# EAGLE library part XS10 (library Distributed_Camera_Parts)
Header for RPI Compute
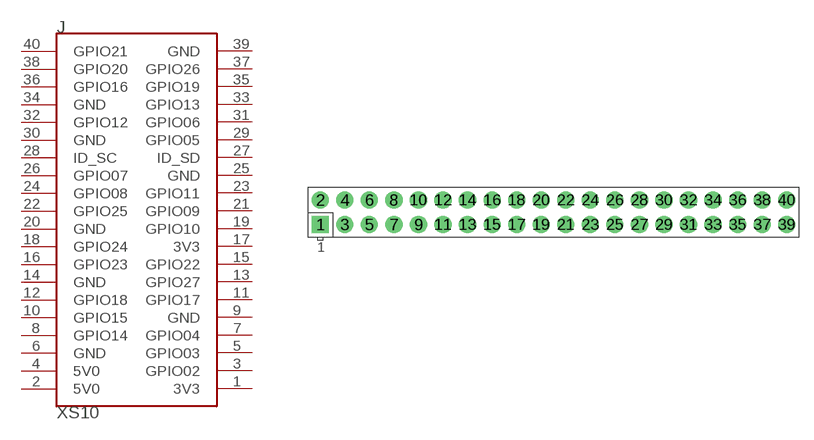
[diagram p1: symbol with the pads of RASPBERRYPI_BASTELSTUBE_V13_RASPI_BOARD_B+_FULL; footprint RASPBERRYPI_BASTELSTUBE_V13_RASPI_BOARD_B+_FULL]

Designator prefix J

## XS10  [RASPBERRYPI_BASTELSTUBE_V13_RASPI_BOARD_B+_FULL]
1  3V3
2  5V0
3  GPIO02
4  5V0
5  GPIO03
6  GND
7  GPIO04
8  GPIO14
9  GND
10  GPIO15
11  GPIO17
12  GPIO18
13  GPIO27
14  GND
15  GPIO22
16  GPIO23
17  3V3
18  GPIO24
19  GPIO10
20  GND
21  GPIO09
22  GPIO25
23  GPIO11
24  GPIO08
25  GND
26  GPIO07
27  ID_SD
28  ID_SC
29  GPIO05
30  GND
31  GPIO06
32  GPIO12
33  GPIO13
34  GND
35  GPIO19
36  GPIO16
37  GPIO26
38  GPIO20
39  GND
40  GPIO21

## Footprint RASPBERRYPI_BASTELSTUBE_V13_RASPI_BOARD_B+_FULL (pad centres in mm)
Raspberry Pi board model B+, full outline with position of big connectors & drill holes
drill 1 pad 1.778 square: 1 -22.63,-1.77
drill 1 pad 1.778: 2 -22.63,0.77; 3 -20.09,-1.77; 4 -20.09,0.77; 5 -17.55,-1.77; 6 -17.55,0.77; 7 -15.01,-1.77; 8 -15.01,0.77; 9 -12.47,-1.77; 10 -12.47,0.77; 11 -9.93,-1.77; 12 -9.93,0.77; 13 -7.39,-1.77; 14 -7.39,0.77; 15 -4.85,-1.77; 16 -4.85,0.77; 17 -2.31,-1.77; 18 -2.31,0.77; 19 0.23,-1.77; 20 0.23,0.77; 21 2.77,-1.77; 22 2.77,0.77; 23 5.31,-1.77; 24 5.31,0.77; 25 7.85,-1.77; 26 7.85,0.77; 27 10.39,-1.77; 28 10.39,0.77; 29 12.93,-1.77; 30 12.93,0.77; 31 15.47,-1.77; 32 15.47,0.77; 33 18.01,-1.77; 34 18.01,0.77; 35 20.55,-1.77; 36 20.55,0.77; 37 23.09,-1.77; 38 23.09,0.77; 39 25.63,-1.77; 40 25.63,0.77